# Altium footprint library AMC1200_SOP.PcbLib: 1 footprints
Each footprint in its own frame and in the unit in brackets; x right, y up, seen from the top. Pads: shape width x height; smd on the part's side, far side on the other; paste and mask are expansions set on the pad; w line width, h text height; cw(c..) or ccw(c..) is an arc to the next point about the centre after c.
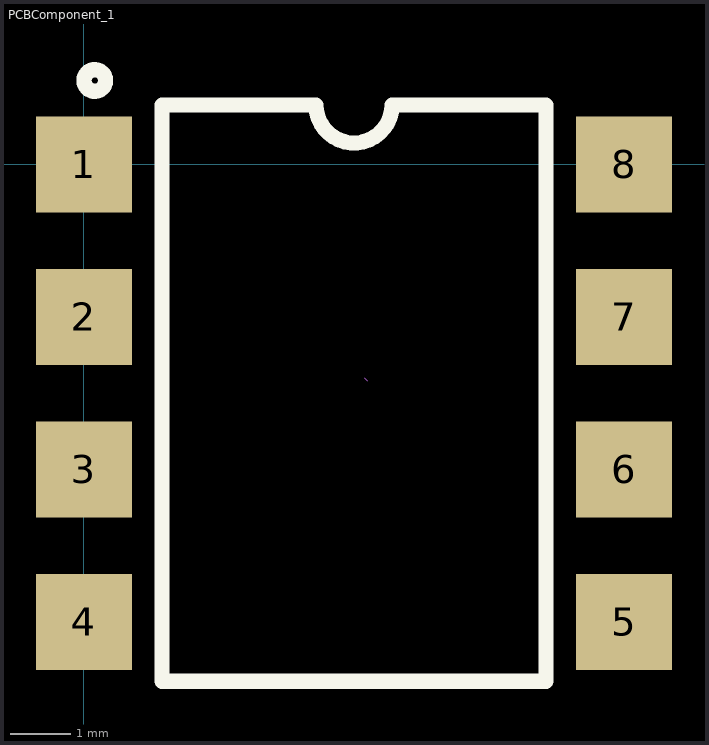
[diagram p0: the footprint, top view; thin cyan lines are the x and y axes]

## PCBComponent_1 [mm]
pads (8):
  rect 1.6x1.6 smd: 1(0,0) 2(0,-2.54) 3(0,-5.08) 4(0,-7.62) 5(9,-7.62) 6(9,-5.08) 7(9,-2.54) 8(9,0)
Top Overlay:
  circle w0.254: c0.182,1.397 r0.18
  lines w0.254: 1.3,-8.61 1.3,0.99 3.865,0.99 ccw(c4.5,0.99) 5.135,0.99 7.7,0.99 7.7,-8.61 1.3,-8.61
Mechanical 15:
  lines w0.003: 4.671,-3.555 4.722,-3.606